# Altium footprint library HEXCAL_PCB_LIB.PcbLib: 209 footprints (part 3 of 14)
Each footprint in its own frame and in the unit in brackets; x right, y up, seen from the top. Pads: shape width x height; smd on the part's side, far side on the other; paste and mask are expansions set on the pad; w line width, h text height; cw(c..) or ccw(c..) is an arc to the next point about the centre after c.
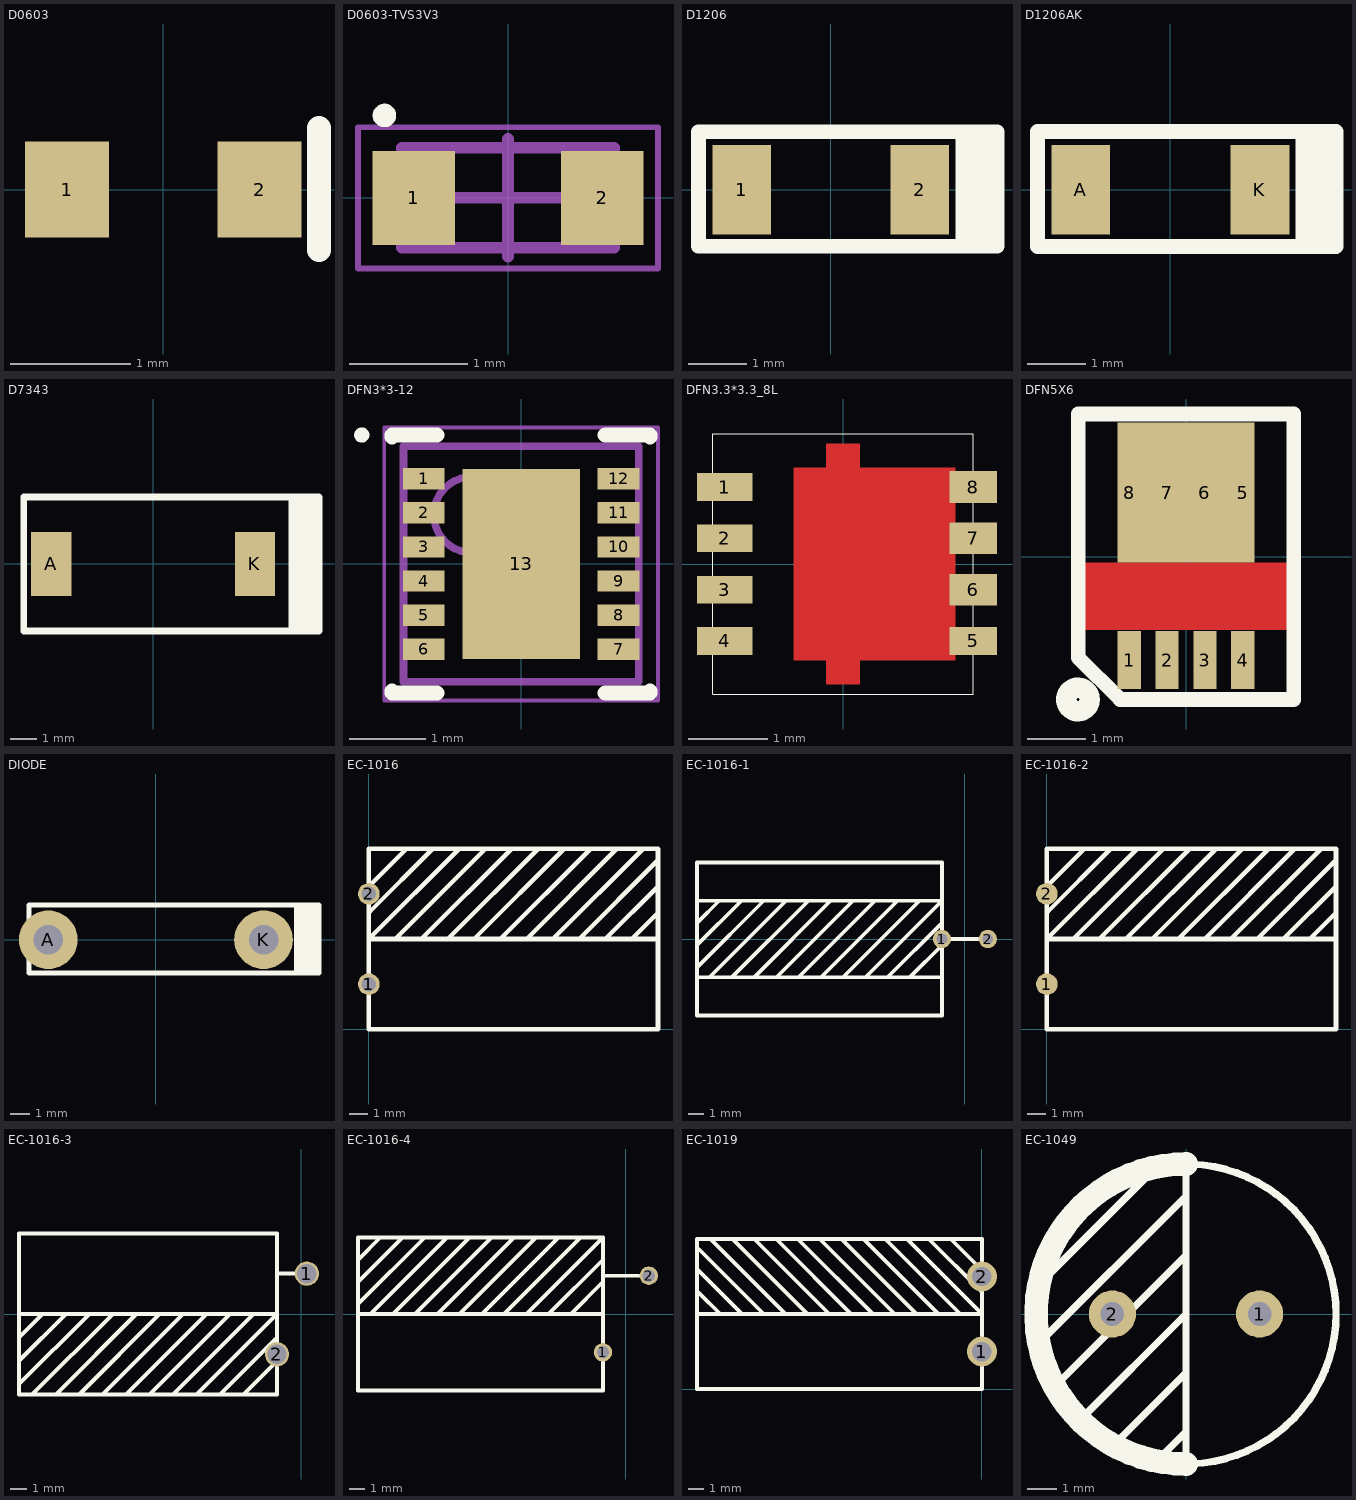
[diagram p2: the footprints below, top view; thin cyan lines are the x and y axes]

## D0603 [mm]
pads (2):
  rect 0.7x0.8 smd: 1(-0.8,0) 2(0.8,0)
Top Overlay:
  lines w0.2: 1.294,-0.503 1.294,0.513

## D0603-TVS3V3 [mm]
height 0.5
pads (2):
  rect 0.7x0.8 smd: 1(-0.8,0) 2(0.8,0)
Top Overlay:
  circle w0.1: c-1.05,0.7 r0.05
Mechanical 13:
  lines w0.1: -0.9,-0.425 -0.9,0.425 0.9,0.425 0.9,-0.425 -0.9,-0.425
Mechanical 15:
  lines w0.05: -1.275,-0.6 -1.275,0.6 1.275,0.6 1.275,-0.6 -1.275,-0.6
  lines w0.1: -0.5,0 0.5,0 ; 0,-0.5 0,0.5
3D body: height 0.5, standoff 0, extent -0.9,-0.425 0.9,0.425

## D1206 [mil]
pads (2):
  rect 39.37x60 smd: 1(-60,0) 2(60,0)
Top Overlay:
  lines w10: 89,16 112,39 ; 99,-38 99,39 ; 107,-38 107,39 ; 89,-38 -89,-38 -89,39 89,39 ; 89,-38 89,39 ; 89,-38 112,-38 112,39 ; 89,39 112,39

## D1206AK [mil]
pads (2):
  rect 39.37x60 smd: A(-60,0) K(60,0)
Top Overlay:
  lines w10: 98,-38 98,39 ; 106,-38 106,39 ; 89,-38 -89,-38 -89,39 89,39 ; 89,-38 89,39 ; 89,-38 111,-38 111,39 89,39

## D7343 [mm]
pads (2):
  rect 1.5x2.4 smd: A(-3.8,0) K(3.8,0)
Top Overlay:
  lines w0.254: 5.182,-2.5 5.182,2.5 ; 5.359,-2.5 5.359,2.5 ; 5.537,-2.5 5.537,2.5 ; 5.766,-2.5 5.766,2.5 ; 5.994,-2.5 5.994,2.5 ; -4.826,-2.5 -3.65,-2.5 3.65,-2.5 6.187,-2.5 6.187,2.5 3.65,2.5 -3.65,2.5 -4.826,2.5 -4.826,-2.5

## DFN3*3-12 [mm] "PSON, 12-Leads, Body 3.00x3.00mm, Pitch 0.45mm, Thermal Pad 2.50x1.55mm, IPC Medium Density"
height 0.75
pads (13):
  rect 0.55x0.28 smd: 1(-1.285,1.125) 2(-1.285,0.675) 3(-1.285,0.225) 4(-1.285,-0.225) 5(-1.285,-0.675) 6(-1.285,-1.125) 7(1.285,-1.125) 8(1.285,-0.675) 9(1.285,-0.225) 10(1.285,0.225) 11(1.285,0.675) 12(1.285,1.125)
  rect 1.55x2.5 smd: 13(0,0)
Top Overlay:
  circle w0.1: c-2.1,1.7 r0.05
  lines w0.2: -1.7,-1.675 -1.7,-1.7 -1.11,-1.7 ; -1.7,1.675 -1.7,1.7 -1.11,1.7 ; 1.11,-1.7 1.7,-1.7 1.7,-1.675 ; 1.11,1.7 1.7,1.7 1.7,1.675
Mechanical 13:
  circle w0.1: c-0.65,0.65 r0.5
  lines w0.1: -1.55,-1.55 1.55,-1.55 1.55,1.55 -1.55,1.55 -1.55,-1.55
Mechanical 15:
  lines w0.05: -1.805,-1.8 1.805,-1.8 1.805,1.8 -1.805,1.8 -1.805,-1.8
  lines w0.1: -0.5,0 0.5,0 ; 0,-0.5 0,0.5
3D body: height 0.75, standoff 0.02, extent -1.55,-1.55 1.55,1.55

## DFN3.3*3.3_8L [mm]
pads (8):
  rect 0.7x0.35 smd: 1(-1.5,0.975) 2(-1.5,0.325) 3(-1.5,-0.325) 4(-1.5,-0.975)
  rect 0.6x0.35 smd: 5(1.65,-0.975)
  rect 0.6x0.4 smd: 6(1.65,-0.325) 7(1.65,0.325) 8(1.65,0.975)
Top Layer:
  rectangle: -0.63,-1.225 1.426,1.225
  rectangle: -0.215,-1.525 0.215,-0.925
  rectangle: -0.215,0.925 0.215,1.525
Top Overlay:
  lines w0.013: -1.65,-1.65 1.65,-1.65 1.65,1.65 -1.65,1.65 -1.65,-1.65
3D body: height 0.8, standoff 0, extent -1.65,-1.65 1.65,1.65

## DFN5X6 [mm]
pads (8):
  rect 0.4x1 smd: 1(-0.975,-1.775) 2(-0.325,-1.775) 3(0.325,-1.775) 4(0.975,-1.775)
  rect 0.4x2.4 smd: 5(0.975,1.1) 8(-0.975,1.1)
  rect 1x2.4 smd: 6(0.325,1.1) 7(-0.325,1.1)
Top Layer:
  pour cut-out: -1.829,-0.106 1.843,-0.106 1.843,-1.256 -1.829,-1.256
Top Overlay:
  circle w0.254: c-1.854,-2.45 r0.25
  circle w0.254: c-1.854,-2.45 r0.153
  lines w0.254: -1.85,-1.731 -1.85,2.45 1.85,2.45 1.85,-2.45 -1.131,-2.45 -1.85,-1.731

## DIODE [mm]
pads (2):
  round 3 hole 1.5: A(-5.5,0) K(5.5,0)
Top Overlay:
  lines w0.254: 7.188,-1.702 7.188,1.778 ; 7.315,-1.702 7.315,1.778 ; 7.518,-1.702 7.518,1.778 ; 7.671,-1.702 7.671,1.778 ; 7.823,-1.702 7.823,1.778 ; 7.95,-1.702 7.95,1.778 ; 8.103,-1.702 8.103,1.778 ; -6.5,-1.702 -6.5,1.778 8.331,1.778 8.331,-1.702 -6.5,-1.702

## EC-1016 [mm]
pads (2):
  round 1.2 hole 0.8: 1(0,2.5) 2(0,7.5)
Top Overlay:
  lines w0.254: 0.008,7.917 2.083,9.992 ; 0.037,6.491 3.545,10 ; 1.455,5 6.455,10 ; 2.909,5 7.909,10 ; 4.364,5 9.364,10 ; 5,10 0,5 16,5 ; 5.818,5 10.818,10 ; 7.273,5 12.217,9.945 ; 8.727,5 13.716,9.989 ; 10.182,5 15.182,10 ; 11.636,5 15.958,9.322 ; 13.091,5 15.99,7.899 ; 14.545,5 15.946,6.401 ; 0,0 0,10 16,10 16,0 0,0

## EC-1016-1 [mm]
pads (2):
  round 1.2 hole 0.7: 1(-1.5,0) 2(1.5,0)
Top Overlay:
  lines w0.254: -17.5,-2.5 -1.5,-2.5 -1.5,2.5 ; -17.5,2.5 -1.5,2.5 ; -17.49,-0.399 -14.591,2.5 ; -17.458,-1.822 -13.136,2.5 ; -17.446,1.099 -16.045,2.5 ; -16.682,-2.5 -11.682,2.5 ; -15.216,-2.489 -10.227,2.5 ; -13.717,-2.445 -8.773,2.5 ; -12.318,-2.5 -7.318,2.5 ; -10.864,-2.5 -5.864,2.5 ; -9.409,-2.5 -4.409,2.5 ; -7.955,-2.5 -2.955,2.5 ; -6.5,-2.5 -1.5,2.5 ; -5.045,-2.5 -1.537,1.009 ; -3.583,-2.492 -1.508,-0.417 ; -1.5,0 1.5,0 ; -1.5,-5 -1.5,5 -17.5,5 -17.5,-5 -1.5,-5 ; -1.5,-5 -1.5,-5

## EC-1016-2 [mm]
pads (2):
  round 1.2 smd: 1(0,2.5) 2(0,7.5)
Top Overlay:
  lines w0.254: 0.008,7.917 2.083,9.992 ; 0.037,6.491 3.545,10 ; 1.455,5 6.455,10 ; 2.909,5 7.909,10 ; 4.364,5 9.364,10 ; 5,10 0,5 16,5 ; 5.818,5 10.818,10 ; 7.273,5 12.217,9.945 ; 8.727,5 13.716,9.989 ; 10.182,5 15.182,10 ; 11.636,5 15.958,9.322 ; 13.091,5 15.99,7.899 ; 14.545,5 15.946,6.401 ; 0,0 0,10 16,10 16,0 0,0

## EC-1016-3 [mm]
pads (2):
  round 1.5 hole 1.2: 1(0.356,2.5) 2(-1.5,-2.5)
Top Overlay:
  lines w0.254: -17.5,0 -1.5,0 ; -17.49,-2.899 -14.591,0 ; -17.458,-4.322 -13.136,0 ; -17.446,-1.401 -16.045,0 ; -16.682,-5 -11.682,0 ; -15.216,-4.989 -10.227,0 ; -13.717,-4.945 -8.773,0 ; -12.318,-5 -7.318,0 ; -10.864,-5 -5.864,0 ; -9.409,-5 -4.409,0 ; -7.955,-5 -2.955,0 ; -6.5,-5 -1.5,0 ; -5.045,-5 -1.537,-1.491 ; -3.583,-4.992 -1.508,-2.917 ; -1.5,2.5 0.356,2.5 ; -17.5,-5 -17.5,5 -1.5,5 ; -17.5,-5 -1.5,-5 ; -17.5,-5 -1.5,-5 ; -1.5,-5 -1.5,5 ; -1.5,-5 -1.5,5 ; -1.5,-5 -1.5,-5 ; -1.5,-5 -1.5,0

## EC-1016-4 [mm]
pads (2):
  round 1.2 hole 0.8: 1(-1.5,-2.5) 2(1.5,2.5)
Top Overlay:
  lines w0.254: -17.5,0 -1.5,0 ; -17.49,2.101 -14.591,5 ; -17.458,0.678 -13.136,5 ; -17.446,3.599 -16.045,5 ; -16.682,0 -11.682,5 ; -15.216,0.011 -10.227,5 ; -13.717,0.055 -8.773,5 ; -12.318,0 -7.318,5 ; -10.864,0 -5.864,5 ; -9.409,0 -4.409,5 ; -7.955,0 -2.955,5 ; -6.5,0 -1.5,5 ; -5.045,0 -1.537,3.509 ; -3.583,0.008 -1.508,2.083 ; -1.5,2.5 1.5,2.5 ; -17.5,5 -1.5,5 ; -17.5,5 -17.5,-5 -1.5,-5 ; -17.5,5 -1.5,5 ; -1.5,-5 -1.5,5 ; -1.5,-5 -1.5,5 ; -1.5,0 -1.5,5 ; -1.5,0 -1.5,0

## EC-1019 [mm]
pads (2):
  round 2 hole 1.3: 1(0,2.5) 2(0,7.5)
Top Overlay:
  lines w0.254: -19,5 0,5 -5,10 ; -18.899,7.899 -16,5 ; -18.867,9.322 -14.545,5 ; -18.855,6.401 -17.455,5 ; -18.091,10 -13.091,5 ; -16.625,9.989 -11.636,5 ; -15.182,10 -10.182,5 ; -13.716,9.989 -8.727,5 ; -12.217,9.945 -7.273,5 ; -10.818,10 -5.818,5 ; -9.364,10 -4.364,5 ; -7.909,10 -2.909,5 ; -6.455,10 -1.455,5 ; -3.545,10 -0.037,6.491 ; -2.083,9.992 -0.008,7.917 ; -19,0 -19,10 0,10 0,0 -19,0

## EC-1049 [mm]
pads (2):
  round 1.6 hole 0.8: 1(2.5,0) 2(-2.5,0)
Top Overlay:
  circle w0.254: c0,0 r5.1
  lines w0.254: -5,-1 0,4 ; -5,1 -1,5 ; -4.5,-2.5 0,2 ; -3.6,-3.6 0,0 ; -2.5,-4.5 0,-2 ; -1.1,-5.1 0,-4 ; 0,-5.1 0,5.1
  lines w0.8: 0,-5.1 cw(c0,0) 0,5.1